# Altium schematic symbol library auxcomp.SchLib: 7 symbols
Pins are listed as number, name and electrical type; pins without a type are passive.

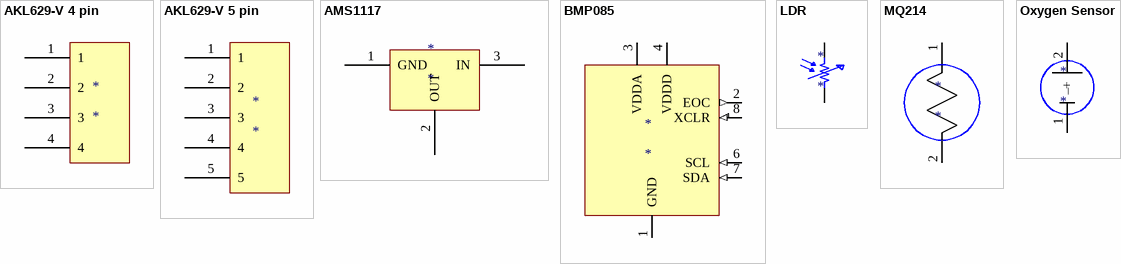
[diagram p0: symbols AKL629-V 4 pin to Oxygen Sensor]

## AKL629-V 4 pin
designator *
pins: 1, 2, 3, 4

## AKL629-V 5 pin
designator *
pins: 1, 2, 3, 4, 5

## AMS1117
designator *
pins: 1 GND, 2 OUT, 3 IN

## BMP085
designator *
pins: 1 GND (power), 2 EOC (out), 3 VDDA (power), 4 VDDD (power), 6 SCL (in), 7 SDA (in), 8 XCLR (in)

## LDR
designator *
pins: 1, 2

## MQ214
designator *
pins: 1, 2

## Oxygen Sensor
designator *
pins: 1 –, 2 +